# EAGLE library part PROMINI5V (library MTS-OTR_Custom)
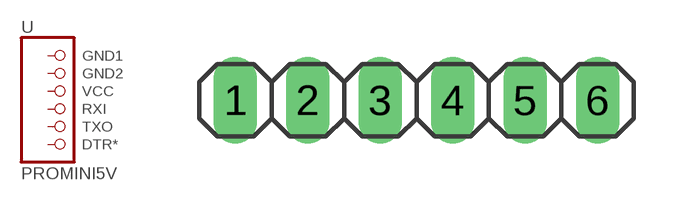
[diagram p25: symbol with the pads of 1X06; footprint 1X06]

Designator prefix -

## PROMINI5V  [1X06]
1  GND1  pas
2  GND2  pas
3  VCC  pas
4  RXI  pas
5  TXO  pas
6  DTR*  pas

## Footprint 1X06 (pad centres in mm)
PIN HEADER
drill 1.016 long: 1 -6.35,0; 2 -3.81,0; 3 -1.27,0; 4 1.27,0; 5 3.81,0; 6 6.35,0